# EAGLE library part AXK4S50435 (library diode-20CJQ030)
Matsushita P6 NARROW-PITCH CONNECTORS FOR PC BOARDS 50Pin Header NARROW-PITCH (0.6mm) CONNECTORS P6 SERIES FEATURES The product lineup consists of the low profile of: - 3 mm - 4 mm - 5 mm - 6 mm - 7 mm - 8 mm - 9 mm APPLICATIONS Small portable equipment, laptop computers, video equipment, radio communication, cellular telephones, etc. Please send any comments to: messi@users.sourceforge.net
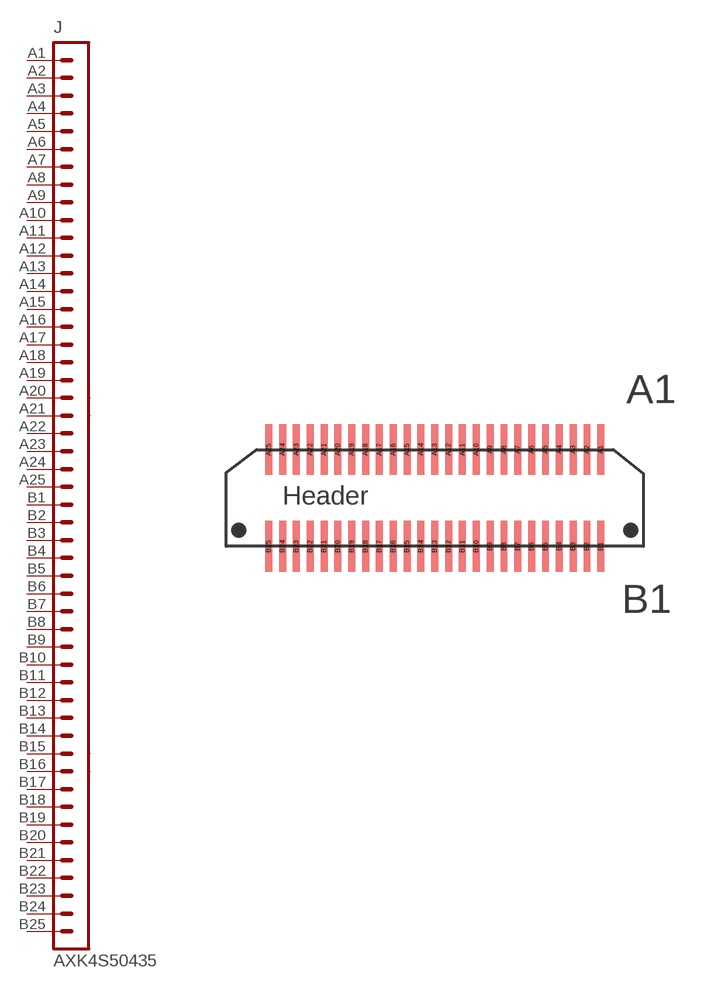
[diagram p5: symbol with the pads of AXK4S50435; footprint AXK4S50435]

Designator prefix J

## AXK4S50435  [AXK4S50435]
A1  1  pas
A2  2  pas
A3  3  pas
A4  4  pas
A5  5  pas
A6  6  pas
A7  7  pas
A8  8  pas
A9  9  pas
A10  10  pas
A11  11  pas
A12  12  pas
A13  13  pas
A14  14  pas
A15  15  pas
A16  16  pas
A17  17  pas
A18  18  pas
A19  19  pas
A20  20  pas
A21  21  pas
A22  22  pas
A23  23  pas
A24  24  pas
A25  25  pas
B1  26  pas
B2  27  pas
B3  28  pas
B4  29  pas
B5  30  pas
B6  31  pas
B7  32  pas
B8  33  pas
B9  34  pas
B10  35  pas
B11  36  pas
B12  37  pas
B13  38  pas
B14  39  pas
B15  40  pas
B16  41  pas
B17  42  pas
B18  43  pas
B19  44  pas
B20  45  pas
B21  46  pas
B22  47  pas
B23  48  pas
B24  49  pas
B25  50  pas

## Footprint AXK4S50435 (pad centres in mm)
Matsushita NARROW-PITCH CONNECTORS FOR PC BOARDS 50Pin Header NARROW-PITCH (0.6mm) CONNECTORS P6 SERIES FEATURES The product lineup consists of the low profile of: - 3 mm - 4 mm - 5 mm - 6 mm - 7 mm - 8 mm - 9 mm APPLICATIONS Small portable equipment, laptop computers, video equipment, radio communication, cellular telephones, etc. Please send any comments to: messi@users.sourceforge.net
smd 0.3 x 2.2: A1 7.2,2.1; A2 6.6,2.1; A3 6,2.1; A4 5.4,2.1; A5 4.8,2.1; A6 4.2,2.1; A7 3.6,2.1; A8 3,2.1; A9 2.4,2.1; A10 1.8,2.1; A11 1.2,2.1; A12 0.6,2.1; A13 0,2.1; A14 -0.6,2.1; A15 -1.2,2.1; A16 -1.8,2.1; A17 -2.4,2.1; A18 -3,2.1; A19 -3.6,2.1; A20 -4.2,2.1; A21 -4.8,2.1; A22 -5.4,2.1; A23 -6,2.1; A24 -6.6,2.1; A25 -7.2,2.1; B1 7.2,-2.1; B2 6.6,-2.1; B3 6,-2.1; B4 5.4,-2.1; B5 4.8,-2.1; B6 4.2,-2.1; B7 3.6,-2.1; B8 3,-2.1; B9 2.4,-2.1; B10 1.8,-2.1; B11 1.2,-2.1; B12 0.6,-2.1; B13 0,-2.1; B14 -0.6,-2.1; B15 -1.2,-2.1; B16 -1.8,-2.1; B17 -2.4,-2.1; B18 -3,-2.1; B19 -3.6,-2.1; B20 -4.2,-2.1; B21 -4.8,-2.1; B22 -5.4,-2.1; B23 -6,-2.1; B24 -6.6,-2.1; B25 -7.2,-2.1